# Altium integrated library Linear Technology PMIC-Switching Reg LTC1174-LTC3901.IntLib: 2647 symbols (part 80 of 310)
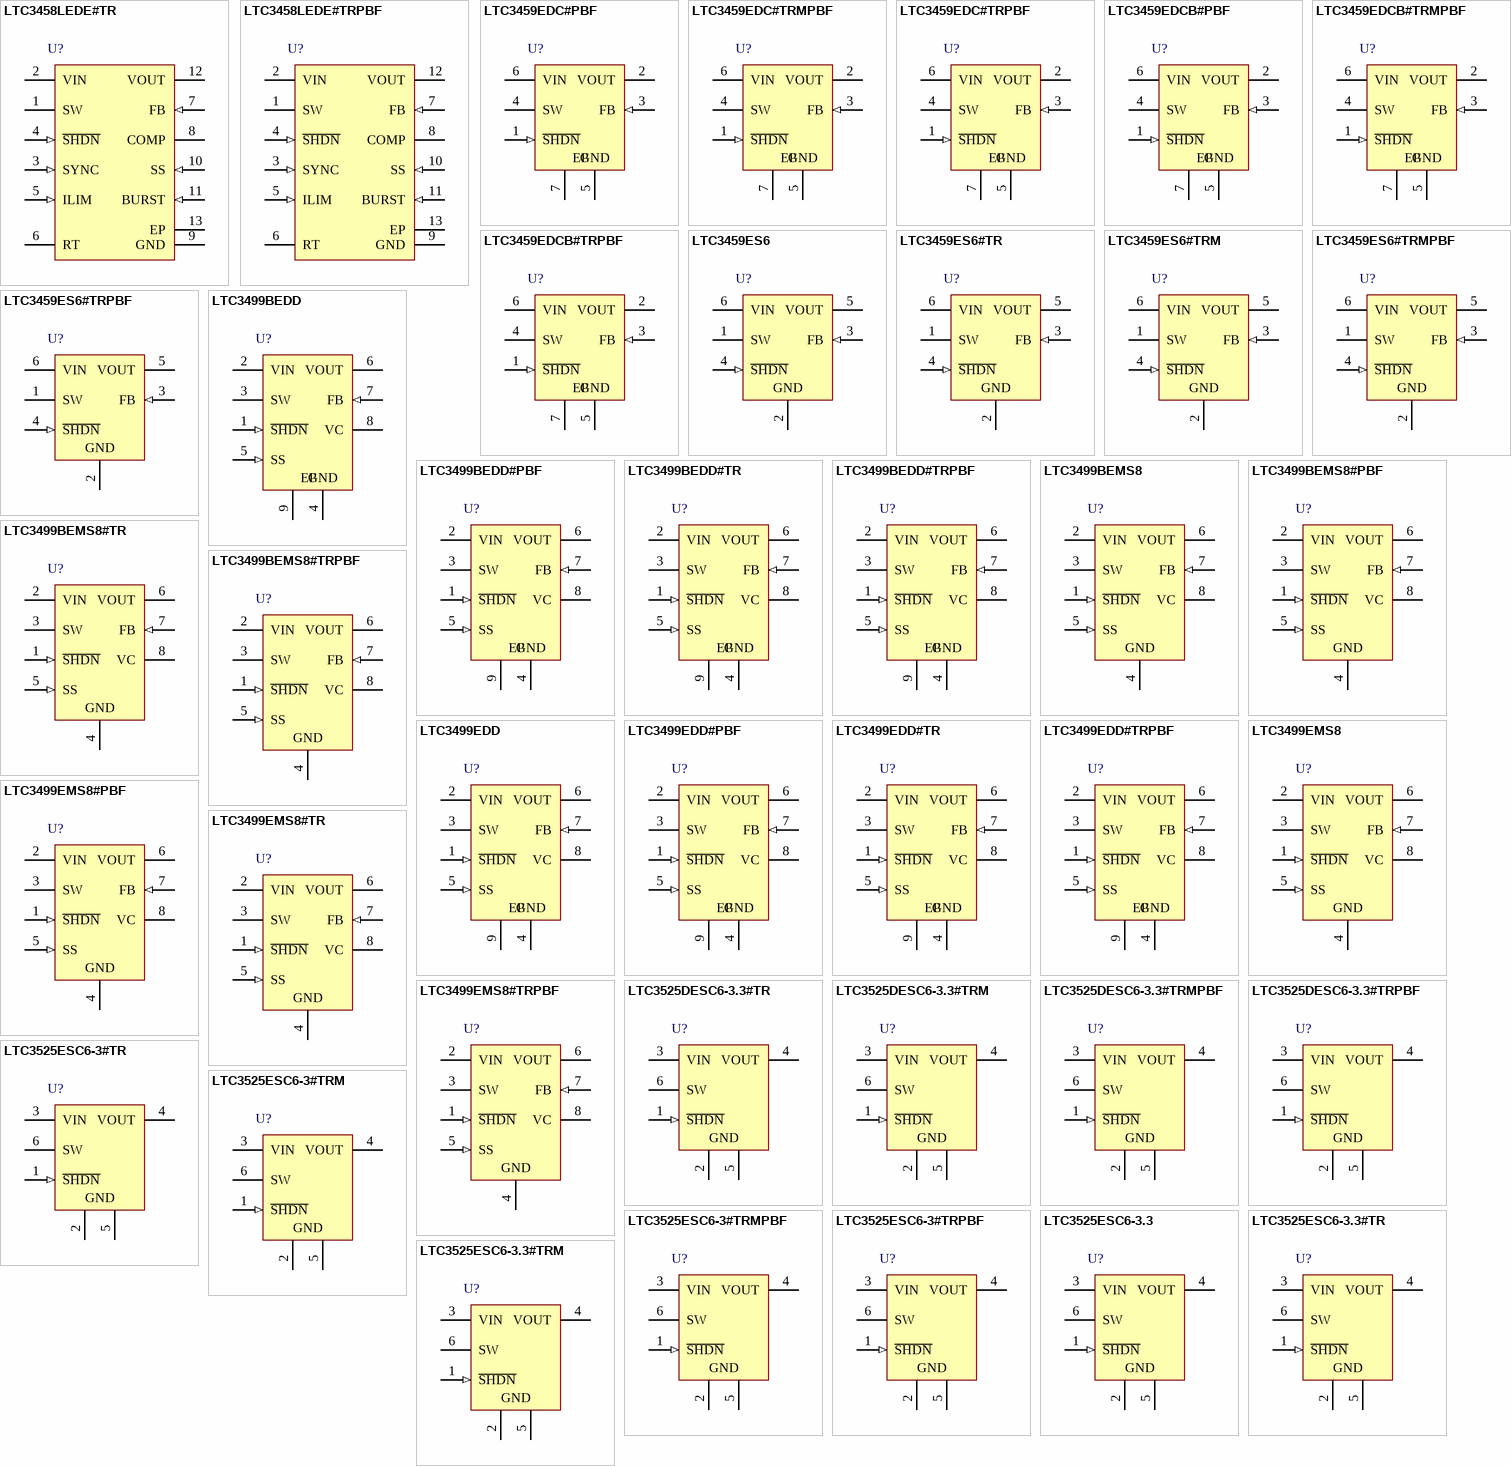
[diagram p161: symbols LTC3458LEDE#TR to LTC3525ESC6-3.3#TRM]

## LTC3499BEDD#TRPBF
designator U?
750 mA Synchronous Step-Up DC/DC Converter with Reverse-Battery Protection, 8-pin SON (DD-8), -40 to 85 degC, Pb-Free, Tape and Reel; Manufacturer: Linear Technology; PartNumber: LTC3499BEDD#TRPBF; Number of Outputs: 1; PackageReference: DD-8; PackageDescription: 8-Pin Plastic DFN, Body 3 x 3 mm, Pitch 0.5 mm; Supplier 1: Digi-Key; Supplier Part Number 1: LTC3499BEDD#TRPBF-ND; RoHS: TRUE; Code_JEDEC: MO-229
footprint LT-DD-8_V (SON, 8-Leads, Body 3x3mm, Pitch 0.5mm, Thermal Pad 1.65x2.38 mm)
pins: 1 ~{SHDN} (in) "Shutdown Input for IC. Connect to a voltage greater than 1.2V to enable and a voltage less than 0.2V to disable the LTC3499/LTC3499B.", 2 VIN (power) "Input Supply Voltage. The valid operating voltage is between 1.8V to 5.5V. VIN has reverse battery protection. Since the LTC3499/LTC3499B use VIN as the main bias source, bypass with a low ESR ceramic capacitor of at least 2.(See Datasheet)", 3 SW "Switch Pin. Connect an inductor from VIN to this pin with a value between 2.2uH and 10uH. Keep PCB trace lengths as short and wide as possible to minimize EMI and voltage overshoot. If the inductor current falls to zero or (See Datasheet)", 4 GND (power) "Signal and Power Ground. The DD package exposed pad must be soldered to the PCB power ground plane for electrical connection and rated thermal performance.", 5 SS (in) "Soft-Start Input. Connect a capacitor from SS to ground to control the inrush current at start-up. An internal 3uA current source charges this pin. SS will be discharged if S\H\D\N\ is pulled low, thermal shutdown occurs or (See Datasheet)", 6 VOUT (power) "Power Supply Output. Connect a low ESR output filter capacitor from this pin to the ground plane.", 7 FB (in) "FB Input to Error Amplifier. Connect a resistor divider tap from VOUT to this pin to set the output voltage. The output voltage can be adjusted between 2V and 6V.", 8 VC "Error Amplifier Output. A frequency compensation network is connected from this pin to GND to compensate the boost converter loop. See Closing the Feedthrough Loop section for guidelines.", 9 EP (power) "Signal and Power Ground. The DD package exposed pad must be soldered to the PCB power ground plane for electrical connection and rated thermal performance."

## LTC3499BEMS8
designator U?
750 mA Synchronous Step-Up DC/DC Converter with Reverse-Battery Protection, 8-pin SOP (MS8-8), -40 to 85 degC; Manufacturer: Linear Technology; PartNumber: LTC3499BEMS8; Number of Outputs: 1; PackageReference: MS8; PackageDescription: 8-Pin Plastic MSOP, Body 3 x 3 mm, Pitch 0.65 mm; RoHS: FALSE
footprint LT-MS8_N (SOP, 8-Leads, Body 3.1x3.1mm, Pitch 0.65mm, IPC Medium Density)
footprint LT-MS8_L (SOP, 8-Leads, Body 3.1x3.1mm, Pitch 0.65mm, IPC High Density)
footprint LT-MS8_M (SOP, 8-Leads, Body 3.1x3.1mm, Pitch 0.65mm, IPC Low Density)
pins: 1 ~{SHDN} (in) "Shutdown Input for IC. Connect to a voltage greater than 1.2V to enable and a voltage less than 0.2V to disable the LTC3499.", 2 VIN (power) "Input Supply Voltage. The valid operating voltage is between 1.8V to 5.5V. VIN has reverse battery protection. Since the LTC3499/LTC3499B use VIN as the main bias source, bypass with a low ESR ceramic capacitor of at least 2.(See Datasheet)", 3 SW "Switch Pin. Connect an inductor from VIN to this pin with a value between 2.2uH and 10uH. Keep PCB trace lengths as short and wide as possible to minimize EMI and voltage overshoot. If the inductor current falls to zero or (See Datasheet)", 4 GND (power) "Signal and Power Ground. The DD package exposed pad must be soldered to the PCB power ground plane for electrical connection and rated thermal performance.", 5 SS (in) "Soft-Start Input. Connect a capacitor from SS to ground to control the inrush current at start-up. An internal 3uA current source charges this pin. SS will be discharged if S\H\D\N\ is pulled low, thermal shutdown occurs or (See Datasheet)", 6 VOUT (power) "Power Supply Output. Connect a low ESR output filter capacitor from this pin to the ground plane.", 7 FB (in) "FB Input to Error Amplifier. Connect a resistor divider tap from VOUT to this pin to set the output voltage. The output voltage can be adjusted between 2V and 6V.", 8 VC "Error Amplifier Output. A frequency compensation network is connected from this pin to GND to compensate the boost converter loop. See Closing the Feedthrough Loop section for guidelines."

## LTC3499BEMS8#PBF
designator U?
750 mA Synchronous Step-Up DC/DC Converter with Reverse-Battery Protection, 8-pin SOP (MS8-8), -40 to 85 degC, Pb-Free; Manufacturer: Linear Technology; PartNumber: LTC3499BEMS8#PBF; Number of Outputs: 1; PackageReference: MS8; PackageDescription: 8-Pin Plastic MSOP, Body 3 x 3 mm, Pitch 0.65 mm; Supplier 1: Digi-Key; Supplier Part Number 1: LTC3499BEMS8#PBF-ND; RoHS: TRUE
footprint LT-MS8_N (SOP, 8-Leads, Body 3.1x3.1mm, Pitch 0.65mm, IPC Medium Density)
footprint LT-MS8_L (SOP, 8-Leads, Body 3.1x3.1mm, Pitch 0.65mm, IPC High Density)
footprint LT-MS8_M (SOP, 8-Leads, Body 3.1x3.1mm, Pitch 0.65mm, IPC Low Density)
pins: 1 ~{SHDN} (in) "Shutdown Input for IC. Connect to a voltage greater than 1.2V to enable and a voltage less than 0.2V to disable the LTC3499.", 2 VIN (power) "Input Supply Voltage. The valid operating voltage is between 1.8V to 5.5V. VIN has reverse battery protection. Since the LTC3499/LTC3499B use VIN as the main bias source, bypass with a low ESR ceramic capacitor of at least 2.(See Datasheet)", 3 SW "Switch Pin. Connect an inductor from VIN to this pin with a value between 2.2uH and 10uH. Keep PCB trace lengths as short and wide as possible to minimize EMI and voltage overshoot. If the inductor current falls to zero or (See Datasheet)", 4 GND (power) "Signal and Power Ground. The DD package exposed pad must be soldered to the PCB power ground plane for electrical connection and rated thermal performance.", 5 SS (in) "Soft-Start Input. Connect a capacitor from SS to ground to control the inrush current at start-up. An internal 3uA current source charges this pin. SS will be discharged if S\H\D\N\ is pulled low, thermal shutdown occurs or (See Datasheet)", 6 VOUT (power) "Power Supply Output. Connect a low ESR output filter capacitor from this pin to the ground plane.", 7 FB (in) "FB Input to Error Amplifier. Connect a resistor divider tap from VOUT to this pin to set the output voltage. The output voltage can be adjusted between 2V and 6V.", 8 VC "Error Amplifier Output. A frequency compensation network is connected from this pin to GND to compensate the boost converter loop. See Closing the Feedthrough Loop section for guidelines."

## LTC3499BEMS8#TR
designator U?
750 mA Synchronous Step-Up DC/DC Converter with Reverse-Battery Protection, 8-pin SOP (MS8-8), -40 to 85 degC, Tape and Reel; Manufacturer: Linear Technology; PartNumber: LTC3499BEMS8#TR; Number of Outputs: 1; PackageReference: MS8; PackageDescription: 8-Pin Plastic MSOP, Body 3 x 3 mm, Pitch 0.65 mm; RoHS: FALSE
footprint LT-MS8_N (SOP, 8-Leads, Body 3.1x3.1mm, Pitch 0.65mm, IPC Medium Density)
footprint LT-MS8_L (SOP, 8-Leads, Body 3.1x3.1mm, Pitch 0.65mm, IPC High Density)
footprint LT-MS8_M (SOP, 8-Leads, Body 3.1x3.1mm, Pitch 0.65mm, IPC Low Density)
pins: 1 ~{SHDN} (in) "Shutdown Input for IC. Connect to a voltage greater than 1.2V to enable and a voltage less than 0.2V to disable the LTC3499.", 2 VIN (power) "Input Supply Voltage. The valid operating voltage is between 1.8V to 5.5V. VIN has reverse battery protection. Since the LTC3499/LTC3499B use VIN as the main bias source, bypass with a low ESR ceramic capacitor of at least 2.(See Datasheet)", 3 SW "Switch Pin. Connect an inductor from VIN to this pin with a value between 2.2uH and 10uH. Keep PCB trace lengths as short and wide as possible to minimize EMI and voltage overshoot. If the inductor current falls to zero or (See Datasheet)", 4 GND (power) "Signal and Power Ground. The DD package exposed pad must be soldered to the PCB power ground plane for electrical connection and rated thermal performance.", 5 SS (in) "Soft-Start Input. Connect a capacitor from SS to ground to control the inrush current at start-up. An internal 3uA current source charges this pin. SS will be discharged if S\H\D\N\ is pulled low, thermal shutdown occurs or (See Datasheet)", 6 VOUT (power) "Power Supply Output. Connect a low ESR output filter capacitor from this pin to the ground plane.", 7 FB (in) "FB Input to Error Amplifier. Connect a resistor divider tap from VOUT to this pin to set the output voltage. The output voltage can be adjusted between 2V and 6V.", 8 VC "Error Amplifier Output. A frequency compensation network is connected from this pin to GND to compensate the boost converter loop. See Closing the Feedthrough Loop section for guidelines."

## LTC3499BEMS8#TRPBF
designator U?
750 mA Synchronous Step-Up DC/DC Converter with Reverse-Battery Protection, 8-pin SOP (MS8-8), -40 to 85 degC, Pb-Free, Tape and Reel; Manufacturer: Linear Technology; PartNumber: LTC3499BEMS8#TRPBF; Number of Outputs: 1; PackageReference: MS8; PackageDescription: 8-Pin Plastic MSOP, Body 3 x 3 mm, Pitch 0.65 mm; Supplier 1: Digi-Key; Supplier Part Number 1: LTC3499BEMS8#TRPBF-ND; RoHS: TRUE
footprint LT-MS8_N (SOP, 8-Leads, Body 3.1x3.1mm, Pitch 0.65mm, IPC Medium Density)
footprint LT-MS8_L (SOP, 8-Leads, Body 3.1x3.1mm, Pitch 0.65mm, IPC High Density)
footprint LT-MS8_M (SOP, 8-Leads, Body 3.1x3.1mm, Pitch 0.65mm, IPC Low Density)
pins: 1 ~{SHDN} (in) "Shutdown Input for IC. Connect to a voltage greater than 1.2V to enable and a voltage less than 0.2V to disable the LTC3499.", 2 VIN (power) "Input Supply Voltage. The valid operating voltage is between 1.8V to 5.5V. VIN has reverse battery protection. Since the LTC3499/LTC3499B use VIN as the main bias source, bypass with a low ESR ceramic capacitor of at least 2.(See Datasheet)", 3 SW "Switch Pin. Connect an inductor from VIN to this pin with a value between 2.2uH and 10uH. Keep PCB trace lengths as short and wide as possible to minimize EMI and voltage overshoot. If the inductor current falls to zero or (See Datasheet)", 4 GND (power) "Signal and Power Ground. The DD package exposed pad must be soldered to the PCB power ground plane for electrical connection and rated thermal performance.", 5 SS (in) "Soft-Start Input. Connect a capacitor from SS to ground to control the inrush current at start-up. An internal 3uA current source charges this pin. SS will be discharged if S\H\D\N\ is pulled low, thermal shutdown occurs or (See Datasheet)", 6 VOUT (power) "Power Supply Output. Connect a low ESR output filter capacitor from this pin to the ground plane.", 7 FB (in) "FB Input to Error Amplifier. Connect a resistor divider tap from VOUT to this pin to set the output voltage. The output voltage can be adjusted between 2V and 6V.", 8 VC "Error Amplifier Output. A frequency compensation network is connected from this pin to GND to compensate the boost converter loop. See Closing the Feedthrough Loop section for guidelines."

## LTC3499EDD
designator U?
750 mA Synchronous Step-Up DC/DC Converter with Reverse-Battery Protection, 8-pin SON (DD-8), -40 to 85 degC; Manufacturer: Linear Technology; PartNumber: LTC3499EDD; Number of Outputs: 1; PackageReference: DD-8; PackageDescription: 8-Pin Plastic DFN, Body 3 x 3 mm, Pitch 0.5 mm; RoHS: FALSE; Code_JEDEC: MO-229
footprint LT-DD-8_V (SON, 8-Leads, Body 3x3mm, Pitch 0.5mm, Thermal Pad 1.65x2.38 mm)
pins: 1 ~{SHDN} (in) "Shutdown Input for IC. Connect to a voltage greater than 1.2V to enable and a voltage less than 0.2V to disable the LTC3499/LTC3499B.", 2 VIN (power) "Input Supply Voltage. The valid operating voltage is between 1.8V to 5.5V. VIN has reverse battery protection. Since the LTC3499/LTC3499B use VIN as the main bias source, bypass with a low ESR ceramic capacitor of at least 2.(See Datasheet)", 3 SW "Switch Pin. Connect an inductor from VIN to this pin with a value between 2.2uH and 10uH. Keep PCB trace lengths as short and wide as possible to minimize EMI and voltage overshoot. If the inductor current falls to zero or (See Datasheet)", 4 GND (power) "Signal and Power Ground. The DD package exposed pad must be soldered to the PCB power ground plane for electrical connection and rated thermal performance.", 5 SS (in) "Soft-Start Input. Connect a capacitor from SS to ground to control the inrush current at start-up. An internal 3uA current source charges this pin. SS will be discharged if S\H\D\N\ is pulled low, thermal shutdown occurs or (See Datasheet)", 6 VOUT (power) "Power Supply Output. Connect a low ESR output filter capacitor from this pin to the ground plane.", 7 FB (in) "FB Input to Error Amplifier. Connect a resistor divider tap from VOUT to this pin to set the output voltage. The output voltage can be adjusted between 2V and 6V.", 8 VC "Error Amplifier Output. A frequency compensation network is connected from this pin to GND to compensate the boost converter loop. See Closing the Feedthrough Loop section for guidelines.", 9 EP (power) "Signal and Power Ground. The DD package exposed pad must be soldered to the PCB power ground plane for electrical connection and rated thermal performance."

## LTC3499EDD#PBF
designator U?
750 mA Synchronous Step-Up DC/DC Converter with Reverse-Battery Protection, 8-pin SON (DD-8), -40 to 85 degC, Pb-Free; Manufacturer: Linear Technology; PartNumber: LTC3499EDD#PBF; Number of Outputs: 1; PackageReference: DD-8; PackageDescription: 8-Pin Plastic DFN, Body 3 x 3 mm, Pitch 0.5 mm; Supplier 1: Digi-Key; Supplier Part Number 1: LTC3499EDD#PBF-ND; RoHS: TRUE; Code_JEDEC: MO-229
footprint LT-DD-8_V (SON, 8-Leads, Body 3x3mm, Pitch 0.5mm, Thermal Pad 1.65x2.38 mm)
pins: 1 ~{SHDN} (in) "Shutdown Input for IC. Connect to a voltage greater than 1.2V to enable and a voltage less than 0.2V to disable the LTC3499/LTC3499B.", 2 VIN (power) "Input Supply Voltage. The valid operating voltage is between 1.8V to 5.5V. VIN has reverse battery protection. Since the LTC3499/LTC3499B use VIN as the main bias source, bypass with a low ESR ceramic capacitor of at least 2.(See Datasheet)", 3 SW "Switch Pin. Connect an inductor from VIN to this pin with a value between 2.2uH and 10uH. Keep PCB trace lengths as short and wide as possible to minimize EMI and voltage overshoot. If the inductor current falls to zero or (See Datasheet)", 4 GND (power) "Signal and Power Ground. The DD package exposed pad must be soldered to the PCB power ground plane for electrical connection and rated thermal performance.", 5 SS (in) "Soft-Start Input. Connect a capacitor from SS to ground to control the inrush current at start-up. An internal 3uA current source charges this pin. SS will be discharged if S\H\D\N\ is pulled low, thermal shutdown occurs or (See Datasheet)", 6 VOUT (power) "Power Supply Output. Connect a low ESR output filter capacitor from this pin to the ground plane.", 7 FB (in) "FB Input to Error Amplifier. Connect a resistor divider tap from VOUT to this pin to set the output voltage. The output voltage can be adjusted between 2V and 6V.", 8 VC "Error Amplifier Output. A frequency compensation network is connected from this pin to GND to compensate the boost converter loop. See Closing the Feedthrough Loop section for guidelines.", 9 EP (power) "Signal and Power Ground. The DD package exposed pad must be soldered to the PCB power ground plane for electrical connection and rated thermal performance."

## LTC3499EDD#TR
designator U?
750 mA Synchronous Step-Up DC/DC Converter with Reverse-Battery Protection, 8-pin SON (DD-8), -40 to 85 degC, Tape and Reel; Manufacturer: Linear Technology; PartNumber: LTC3499EDD#TR; Number of Outputs: 1; PackageReference: DD-8; PackageDescription: 8-Pin Plastic DFN, Body 3 x 3 mm, Pitch 0.5 mm; RoHS: FALSE; Code_JEDEC: MO-229
footprint LT-DD-8_V (SON, 8-Leads, Body 3x3mm, Pitch 0.5mm, Thermal Pad 1.65x2.38 mm)
pins: 1 ~{SHDN} (in) "Shutdown Input for IC. Connect to a voltage greater than 1.2V to enable and a voltage less than 0.2V to disable the LTC3499/LTC3499B.", 2 VIN (power) "Input Supply Voltage. The valid operating voltage is between 1.8V to 5.5V. VIN has reverse battery protection. Since the LTC3499/LTC3499B use VIN as the main bias source, bypass with a low ESR ceramic capacitor of at least 2.(See Datasheet)", 3 SW "Switch Pin. Connect an inductor from VIN to this pin with a value between 2.2uH and 10uH. Keep PCB trace lengths as short and wide as possible to minimize EMI and voltage overshoot. If the inductor current falls to zero or (See Datasheet)", 4 GND (power) "Signal and Power Ground. The DD package exposed pad must be soldered to the PCB power ground plane for electrical connection and rated thermal performance.", 5 SS (in) "Soft-Start Input. Connect a capacitor from SS to ground to control the inrush current at start-up. An internal 3uA current source charges this pin. SS will be discharged if S\H\D\N\ is pulled low, thermal shutdown occurs or (See Datasheet)", 6 VOUT (power) "Power Supply Output. Connect a low ESR output filter capacitor from this pin to the ground plane.", 7 FB (in) "FB Input to Error Amplifier. Connect a resistor divider tap from VOUT to this pin to set the output voltage. The output voltage can be adjusted between 2V and 6V.", 8 VC "Error Amplifier Output. A frequency compensation network is connected from this pin to GND to compensate the boost converter loop. See Closing the Feedthrough Loop section for guidelines.", 9 EP (power) "Signal and Power Ground. The DD package exposed pad must be soldered to the PCB power ground plane for electrical connection and rated thermal performance."

## LTC3499EDD#TRPBF
designator U?
750 mA Synchronous Step-Up DC/DC Converter with Reverse-Battery Protection, 8-pin SON (DD-8), -40 to 85 degC, Pb-Free, Tape and Reel; Manufacturer: Linear Technology; PartNumber: LTC3499EDD#TRPBF; Number of Outputs: 1; PackageReference: DD-8; PackageDescription: 8-Pin Plastic DFN, Body 3 x 3 mm, Pitch 0.5 mm; Supplier 1: Digi-Key; Supplier Part Number 1: LTC3499EDD#TRPBF-ND; RoHS: TRUE; Code_JEDEC: MO-229
footprint LT-DD-8_V (SON, 8-Leads, Body 3x3mm, Pitch 0.5mm, Thermal Pad 1.65x2.38 mm)
pins: 1 ~{SHDN} (in) "Shutdown Input for IC. Connect to a voltage greater than 1.2V to enable and a voltage less than 0.2V to disable the LTC3499/LTC3499B.", 2 VIN (power) "Input Supply Voltage. The valid operating voltage is between 1.8V to 5.5V. VIN has reverse battery protection. Since the LTC3499/LTC3499B use VIN as the main bias source, bypass with a low ESR ceramic capacitor of at least 2.(See Datasheet)", 3 SW "Switch Pin. Connect an inductor from VIN to this pin with a value between 2.2uH and 10uH. Keep PCB trace lengths as short and wide as possible to minimize EMI and voltage overshoot. If the inductor current falls to zero or (See Datasheet)", 4 GND (power) "Signal and Power Ground. The DD package exposed pad must be soldered to the PCB power ground plane for electrical connection and rated thermal performance.", 5 SS (in) "Soft-Start Input. Connect a capacitor from SS to ground to control the inrush current at start-up. An internal 3uA current source charges this pin. SS will be discharged if S\H\D\N\ is pulled low, thermal shutdown occurs or (See Datasheet)", 6 VOUT (power) "Power Supply Output. Connect a low ESR output filter capacitor from this pin to the ground plane.", 7 FB (in) "FB Input to Error Amplifier. Connect a resistor divider tap from VOUT to this pin to set the output voltage. The output voltage can be adjusted between 2V and 6V.", 8 VC "Error Amplifier Output. A frequency compensation network is connected from this pin to GND to compensate the boost converter loop. See Closing the Feedthrough Loop section for guidelines.", 9 EP (power) "Signal and Power Ground. The DD package exposed pad must be soldered to the PCB power ground plane for electrical connection and rated thermal performance."

## LTC3499EMS8
designator U?
750 mA Synchronous Step-Up DC/DC Converter with Reverse-Battery Protection, 8-pin SOP (MS8-8), -40 to 85 degC; Manufacturer: Linear Technology; PartNumber: LTC3499EMS8; Number of Outputs: 1; PackageReference: MS8; PackageDescription: 8-Pin Plastic MSOP, Body 3 x 3 mm, Pitch 0.65 mm; RoHS: FALSE
footprint LT-MS8_N (SOP, 8-Leads, Body 3.1x3.1mm, Pitch 0.65mm, IPC Medium Density)
footprint LT-MS8_L (SOP, 8-Leads, Body 3.1x3.1mm, Pitch 0.65mm, IPC High Density)
footprint LT-MS8_M (SOP, 8-Leads, Body 3.1x3.1mm, Pitch 0.65mm, IPC Low Density)
pins: 1 ~{SHDN} (in) "Shutdown Input for IC. Connect to a voltage greater than 1.2V to enable and a voltage less than 0.2V to disable the LTC3499.", 2 VIN (power) "Input Supply Voltage. The valid operating voltage is between 1.8V to 5.5V. VIN has reverse battery protection. Since the LTC3499/LTC3499B use VIN as the main bias source, bypass with a low ESR ceramic capacitor of at least 2.(See Datasheet)", 3 SW "Switch Pin. Connect an inductor from VIN to this pin with a value between 2.2uH and 10uH. Keep PCB trace lengths as short and wide as possible to minimize EMI and voltage overshoot. If the inductor current falls to zero or (See Datasheet)", 4 GND (power) "Signal and Power Ground. The DD package exposed pad must be soldered to the PCB power ground plane for electrical connection and rated thermal performance.", 5 SS (in) "Soft-Start Input. Connect a capacitor from SS to ground to control the inrush current at start-up. An internal 3uA current source charges this pin. SS will be discharged if S\H\D\N\ is pulled low, thermal shutdown occurs or (See Datasheet)", 6 VOUT (power) "Power Supply Output. Connect a low ESR output filter capacitor from this pin to the ground plane.", 7 FB (in) "FB Input to Error Amplifier. Connect a resistor divider tap from VOUT to this pin to set the output voltage. The output voltage can be adjusted between 2V and 6V.", 8 VC "Error Amplifier Output. A frequency compensation network is connected from this pin to GND to compensate the boost converter loop. See Closing the Feedthrough Loop section for guidelines."

## LTC3499EMS8#PBF
designator U?
750 mA Synchronous Step-Up DC/DC Converter with Reverse-Battery Protection, 8-pin SOP (MS8-8), -40 to 85 degC, Pb-Free; Manufacturer: Linear Technology; PartNumber: LTC3499EMS8#PBF; Number of Outputs: 1; PackageReference: MS8; PackageDescription: 8-Pin Plastic MSOP, Body 3 x 3 mm, Pitch 0.65 mm; Supplier 1: Digi-Key; Supplier Part Number 1: LTC3499EMS8#PBF-ND; RoHS: TRUE
footprint LT-MS8_N (SOP, 8-Leads, Body 3.1x3.1mm, Pitch 0.65mm, IPC Medium Density)
footprint LT-MS8_L (SOP, 8-Leads, Body 3.1x3.1mm, Pitch 0.65mm, IPC High Density)
footprint LT-MS8_M (SOP, 8-Leads, Body 3.1x3.1mm, Pitch 0.65mm, IPC Low Density)
pins: 1 ~{SHDN} (in) "Shutdown Input for IC. Connect to a voltage greater than 1.2V to enable and a voltage less than 0.2V to disable the LTC3499.", 2 VIN (power) "Input Supply Voltage. The valid operating voltage is between 1.8V to 5.5V. VIN has reverse battery protection. Since the LTC3499/LTC3499B use VIN as the main bias source, bypass with a low ESR ceramic capacitor of at least 2.(See Datasheet)", 3 SW "Switch Pin. Connect an inductor from VIN to this pin with a value between 2.2uH and 10uH. Keep PCB trace lengths as short and wide as possible to minimize EMI and voltage overshoot. If the inductor current falls to zero or (See Datasheet)", 4 GND (power) "Signal and Power Ground. The DD package exposed pad must be soldered to the PCB power ground plane for electrical connection and rated thermal performance.", 5 SS (in) "Soft-Start Input. Connect a capacitor from SS to ground to control the inrush current at start-up. An internal 3uA current source charges this pin. SS will be discharged if S\H\D\N\ is pulled low, thermal shutdown occurs or (See Datasheet)", 6 VOUT (power) "Power Supply Output. Connect a low ESR output filter capacitor from this pin to the ground plane.", 7 FB (in) "FB Input to Error Amplifier. Connect a resistor divider tap from VOUT to this pin to set the output voltage. The output voltage can be adjusted between 2V and 6V.", 8 VC "Error Amplifier Output. A frequency compensation network is connected from this pin to GND to compensate the boost converter loop. See Closing the Feedthrough Loop section for guidelines."

## LTC3499EMS8#TR
designator U?
750 mA Synchronous Step-Up DC/DC Converter with Reverse-Battery Protection, 8-pin SOP (MS8-8), -40 to 85 degC, Tape and Reel; Manufacturer: Linear Technology; PartNumber: LTC3499EMS8#TR; Number of Outputs: 1; PackageReference: MS8; PackageDescription: 8-Pin Plastic MSOP, Body 3 x 3 mm, Pitch 0.65 mm; RoHS: FALSE
footprint LT-MS8_N (SOP, 8-Leads, Body 3.1x3.1mm, Pitch 0.65mm, IPC Medium Density)
footprint LT-MS8_L (SOP, 8-Leads, Body 3.1x3.1mm, Pitch 0.65mm, IPC High Density)
footprint LT-MS8_M (SOP, 8-Leads, Body 3.1x3.1mm, Pitch 0.65mm, IPC Low Density)
pins: 1 ~{SHDN} (in) "Shutdown Input for IC. Connect to a voltage greater than 1.2V to enable and a voltage less than 0.2V to disable the LTC3499.", 2 VIN (power) "Input Supply Voltage. The valid operating voltage is between 1.8V to 5.5V. VIN has reverse battery protection. Since the LTC3499/LTC3499B use VIN as the main bias source, bypass with a low ESR ceramic capacitor of at least 2.(See Datasheet)", 3 SW "Switch Pin. Connect an inductor from VIN to this pin with a value between 2.2uH and 10uH. Keep PCB trace lengths as short and wide as possible to minimize EMI and voltage overshoot. If the inductor current falls to zero or (See Datasheet)", 4 GND (power) "Signal and Power Ground. The DD package exposed pad must be soldered to the PCB power ground plane for electrical connection and rated thermal performance.", 5 SS (in) "Soft-Start Input. Connect a capacitor from SS to ground to control the inrush current at start-up. An internal 3uA current source charges this pin. SS will be discharged if S\H\D\N\ is pulled low, thermal shutdown occurs or (See Datasheet)", 6 VOUT (power) "Power Supply Output. Connect a low ESR output filter capacitor from this pin to the ground plane.", 7 FB (in) "FB Input to Error Amplifier. Connect a resistor divider tap from VOUT to this pin to set the output voltage. The output voltage can be adjusted between 2V and 6V.", 8 VC "Error Amplifier Output. A frequency compensation network is connected from this pin to GND to compensate the boost converter loop. See Closing the Feedthrough Loop section for guidelines."

## LTC3499EMS8#TRPBF
designator U?
750 mA Synchronous Step-Up DC/DC Converter with Reverse-Battery Protection, 8-pin SOP (MS8-8), -40 to 85 degC, Pb-Free, Tape and Reel; Manufacturer: Linear Technology; PartNumber: LTC3499EMS8#TRPBF; Number of Outputs: 1; PackageReference: MS8; PackageDescription: 8-Pin Plastic MSOP, Body 3 x 3 mm, Pitch 0.65 mm; Supplier 1: Digi-Key; Supplier Part Number 1: LTC3499EMS8#TRPBF-ND; RoHS: TRUE
footprint LT-MS8_N (SOP, 8-Leads, Body 3.1x3.1mm, Pitch 0.65mm, IPC Medium Density)
footprint LT-MS8_L (SOP, 8-Leads, Body 3.1x3.1mm, Pitch 0.65mm, IPC High Density)
footprint LT-MS8_M (SOP, 8-Leads, Body 3.1x3.1mm, Pitch 0.65mm, IPC Low Density)
pins: 1 ~{SHDN} (in) "Shutdown Input for IC. Connect to a voltage greater than 1.2V to enable and a voltage less than 0.2V to disable the LTC3499.", 2 VIN (power) "Input Supply Voltage. The valid operating voltage is between 1.8V to 5.5V. VIN has reverse battery protection. Since the LTC3499/LTC3499B use VIN as the main bias source, bypass with a low ESR ceramic capacitor of at least 2.(See Datasheet)", 3 SW "Switch Pin. Connect an inductor from VIN to this pin with a value between 2.2uH and 10uH. Keep PCB trace lengths as short and wide as possible to minimize EMI and voltage overshoot. If the inductor current falls to zero or (See Datasheet)", 4 GND (power) "Signal and Power Ground. The DD package exposed pad must be soldered to the PCB power ground plane for electrical connection and rated thermal performance.", 5 SS (in) "Soft-Start Input. Connect a capacitor from SS to ground to control the inrush current at start-up. An internal 3uA current source charges this pin. SS will be discharged if S\H\D\N\ is pulled low, thermal shutdown occurs or (See Datasheet)", 6 VOUT (power) "Power Supply Output. Connect a low ESR output filter capacitor from this pin to the ground plane.", 7 FB (in) "FB Input to Error Amplifier. Connect a resistor divider tap from VOUT to this pin to set the output voltage. The output voltage can be adjusted between 2V and 6V.", 8 VC "Error Amplifier Output. A frequency compensation network is connected from this pin to GND to compensate the boost converter loop. See Closing the Feedthrough Loop section for guidelines."

## LTC3525DESC6-3.3#TR
designator U?
400 mA Micropower Synchronous Step-Up DC/DC Converter with Pass Through Mode, 6-pin SOT23 (SC6-6), -40 to 85 degC, Tape and Reel; Manufacturer: Linear Technology; PartNumber: LTC3525DESC6-3.3#TR; Number of Outputs: 1; PackageReference: SC6-6; PackageDescription: 6-Pin Plastic SC70, Body 2 x 1.25 mm, Pitch 0.65 mm; RoHS: FALSE; Code_JEDEC: MO-203
footprint LT-SC6-6-SC70_N (SOT23, 6-Leads, Body 2.2x1.35mm, Pitch 0.65mm, IPC Medium Density)
footprint LT-SC6-6-SC70_L (SOT23, 6-Leads, Body 2.2x1.35mm, Pitch 0.65mm, IPC High Density)
footprint LT-SC6-6-SC70_M (SOT23, 6-Leads, Body 2.2x1.35mm, Pitch 0.65mm, IPC Low Density)
pins: 1 ~{SHDN} (in) "Logic-Controlled Shutdown Input.", 2 GND (power) "Ground.", 3 VIN (power) "Input Voltage.", 4 VOUT (power) "Output Voltage Sense and the Output of the Synchronous Rectifier. Connect the output filter capacitor from VOUT to GND, close to the IC. A minimum value of 10uF ceramic is recommended. Use 22uF for reduced output ripple.", 5 GND (power) "Ground.", 6 SW "Switch Pin. Connect an inductor from this pin to VIN. An internal antiringing resistor is connected across SW and VIN after the inductor current has dropped to zero to minimize EMI."

## LTC3525DESC6-3.3#TRM
designator U?
400 mA Micropower Synchronous Step-Up DC/DC Converter with Pass Through Mode, 6-pin SOT23 (SC6-6), -40 to 85 degC, Mini Tape and Reel; Manufacturer: Linear Technology; PartNumber: LTC3525DESC6-3.3#TRM; Number of Outputs: 1; PackageReference: SC6-6; PackageDescription: 6-Pin Plastic SC70, Body 2 x 1.25 mm, Pitch 0.65 mm; RoHS: FALSE; Code_JEDEC: MO-203
footprint LT-SC6-6-SC70_N (SOT23, 6-Leads, Body 2.2x1.35mm, Pitch 0.65mm, IPC Medium Density)
footprint LT-SC6-6-SC70_L (SOT23, 6-Leads, Body 2.2x1.35mm, Pitch 0.65mm, IPC High Density)
footprint LT-SC6-6-SC70_M (SOT23, 6-Leads, Body 2.2x1.35mm, Pitch 0.65mm, IPC Low Density)
pins: 1 ~{SHDN} (in) "Logic-Controlled Shutdown Input.", 2 GND (power) "Ground.", 3 VIN (power) "Input Voltage.", 4 VOUT (power) "Output Voltage Sense and the Output of the Synchronous Rectifier. Connect the output filter capacitor from VOUT to GND, close to the IC. A minimum value of 10uF ceramic is recommended. Use 22uF for reduced output ripple.", 5 GND (power) "Ground.", 6 SW "Switch Pin. Connect an inductor from this pin to VIN. An internal antiringing resistor is connected across SW and VIN after the inductor current has dropped to zero to minimize EMI."

## LTC3525DESC6-3.3#TRMPBF
designator U?
400 mA Micropower Synchronous Step-Up DC/DC Converter with Pass Through Mode, 6-pin SOT23 (SC6-6), -40 to 85 degC, Pb-Free, Mini Tape and Reel; Manufacturer: Linear Technology; PartNumber: LTC3525DESC6-3.3#TRMPBF; Number of Outputs: 1; PackageReference: SC6-6; PackageDescription: 6-Pin Plastic SC70, Body 2 x 1.25 mm, Pitch 0.65 mm; Supplier 1: Digi-Key; Supplier Part Number 1: LTC3525DESC6-3.3#TRMPBF-ND; RoHS: TRUE; Code_JEDEC: MO-203
footprint LT-SC6-6-SC70_N (SOT23, 6-Leads, Body 2.2x1.35mm, Pitch 0.65mm, IPC Medium Density)
footprint LT-SC6-6-SC70_L (SOT23, 6-Leads, Body 2.2x1.35mm, Pitch 0.65mm, IPC High Density)
footprint LT-SC6-6-SC70_M (SOT23, 6-Leads, Body 2.2x1.35mm, Pitch 0.65mm, IPC Low Density)
pins: 1 ~{SHDN} (in) "Logic-Controlled Shutdown Input.", 2 GND (power) "Ground.", 3 VIN (power) "Input Voltage.", 4 VOUT (power) "Output Voltage Sense and the Output of the Synchronous Rectifier. Connect the output filter capacitor from VOUT to GND, close to the IC. A minimum value of 10uF ceramic is recommended. Use 22uF for reduced output ripple.", 5 GND (power) "Ground.", 6 SW "Switch Pin. Connect an inductor from this pin to VIN. An internal antiringing resistor is connected across SW and VIN after the inductor current has dropped to zero to minimize EMI."

## LTC3525DESC6-3.3#TRPBF
designator U?
400 mA Micropower Synchronous Step-Up DC/DC Converter with Pass Through Mode, 6-pin SOT23 (SC6-6), -40 to 85 degC, Pb-Free, Tape and Reel; Manufacturer: Linear Technology; PartNumber: LTC3525DESC6-3.3#TRPBF; Number of Outputs: 1; PackageReference: SC6-6; PackageDescription: 6-Pin Plastic SC70, Body 2 x 1.25 mm, Pitch 0.65 mm; Supplier 1: Digi-Key; Supplier Part Number 1: LTC3525DESC6-3.3#TRPBF-ND; RoHS: TRUE; Code_JEDEC: MO-203
footprint LT-SC6-6-SC70_N (SOT23, 6-Leads, Body 2.2x1.35mm, Pitch 0.65mm, IPC Medium Density)
footprint LT-SC6-6-SC70_L (SOT23, 6-Leads, Body 2.2x1.35mm, Pitch 0.65mm, IPC High Density)
footprint LT-SC6-6-SC70_M (SOT23, 6-Leads, Body 2.2x1.35mm, Pitch 0.65mm, IPC Low Density)
pins: 1 ~{SHDN} (in) "Logic-Controlled Shutdown Input.", 2 GND (power) "Ground.", 3 VIN (power) "Input Voltage.", 4 VOUT (power) "Output Voltage Sense and the Output of the Synchronous Rectifier. Connect the output filter capacitor from VOUT to GND, close to the IC. A minimum value of 10uF ceramic is recommended. Use 22uF for reduced output ripple.", 5 GND (power) "Ground.", 6 SW "Switch Pin. Connect an inductor from this pin to VIN. An internal antiringing resistor is connected across SW and VIN after the inductor current has dropped to zero to minimize EMI."

## LTC3525ESC6-3#TR
designator U?
400 mA Micropower Synchronous Step-Up DC/DC Converter with Output Disconnect, 6-pin SOT23 (SC6-6), -40 to 85 degC, Tape and Reel; Manufacturer: Linear Technology; PartNumber: LTC3525ESC6-3#TR; Number of Outputs: 1; PackageReference: SC6-6; PackageDescription: 6-Pin Plastic SC70, Body 2 x 1.25 mm, Pitch 0.65 mm; RoHS: FALSE; Code_JEDEC: MO-203
footprint LT-SC6-6-SC70_N (SOT23, 6-Leads, Body 2.2x1.35mm, Pitch 0.65mm, IPC Medium Density)
footprint LT-SC6-6-SC70_L (SOT23, 6-Leads, Body 2.2x1.35mm, Pitch 0.65mm, IPC High Density)
footprint LT-SC6-6-SC70_M (SOT23, 6-Leads, Body 2.2x1.35mm, Pitch 0.65mm, IPC Low Density)
pins: 1 ~{SHDN} (in) "Logic-Controlled Shutdown Input.", 2 GND (power) "Ground.", 3 VIN (power) "Input Voltage.", 4 VOUT (power) "Output Voltage Sense and the Output of the Synchronous Rectifier. Connect the output filter capacitor from VOUT to GND, close to the IC. A minimum value of 10uF ceramic is recommended. Use 22uF for reduced output ripple.", 5 GND (power) "Ground.", 6 SW "Switch Pin. Connect an inductor from this pin to VIN. An internal antiringing resistor is connected across SW and VIN after the inductor current has dropped to zero to minimize EMI."

## LTC3525ESC6-3#TRM
designator U?
400 mA Micropower Synchronous Step-Up DC/DC Converter with Output Disconnect, 6-pin SOT23 (SC6-6), -40 to 85 degC, Mini Tape and Reel; Manufacturer: Linear Technology; PartNumber: LTC3525ESC6-3#TRM; Number of Outputs: 1; PackageReference: SC6-6; PackageDescription: 6-Pin Plastic SC70, Body 2 x 1.25 mm, Pitch 0.65 mm; RoHS: FALSE; Code_JEDEC: MO-203
footprint LT-SC6-6-SC70_N (SOT23, 6-Leads, Body 2.2x1.35mm, Pitch 0.65mm, IPC Medium Density)
footprint LT-SC6-6-SC70_L (SOT23, 6-Leads, Body 2.2x1.35mm, Pitch 0.65mm, IPC High Density)
footprint LT-SC6-6-SC70_M (SOT23, 6-Leads, Body 2.2x1.35mm, Pitch 0.65mm, IPC Low Density)
pins: 1 ~{SHDN} (in) "Logic-Controlled Shutdown Input.", 2 GND (power) "Ground.", 3 VIN (power) "Input Voltage.", 4 VOUT (power) "Output Voltage Sense and the Output of the Synchronous Rectifier. Connect the output filter capacitor from VOUT to GND, close to the IC. A minimum value of 10uF ceramic is recommended. Use 22uF for reduced output ripple.", 5 GND (power) "Ground.", 6 SW "Switch Pin. Connect an inductor from this pin to VIN. An internal antiringing resistor is connected across SW and VIN after the inductor current has dropped to zero to minimize EMI."

## LTC3525ESC6-3#TRMPBF
designator U?
400 mA Micropower Synchronous Step-Up DC/DC Converter with Output Disconnect, 6-pin SOT23 (SC6-6), -40 to 85 degC, Pb-Free, Mini Tape and Reel; Manufacturer: Linear Technology; PartNumber: LTC3525ESC6-3#TRMPBF; Number of Outputs: 1; PackageReference: SC6-6; PackageDescription: 6-Pin Plastic SC70, Body 2 x 1.25 mm, Pitch 0.65 mm; Supplier 1: Digi-Key; Supplier Part Number 1: LTC3525ESC6-3#TRMPBFTR-ND; RoHS: TRUE; Code_JEDEC: MO-203
footprint LT-SC6-6-SC70_N (SOT23, 6-Leads, Body 2.2x1.35mm, Pitch 0.65mm, IPC Medium Density)
footprint LT-SC6-6-SC70_L (SOT23, 6-Leads, Body 2.2x1.35mm, Pitch 0.65mm, IPC High Density)
footprint LT-SC6-6-SC70_M (SOT23, 6-Leads, Body 2.2x1.35mm, Pitch 0.65mm, IPC Low Density)
pins: 1 ~{SHDN} (in) "Logic-Controlled Shutdown Input.", 2 GND (power) "Ground.", 3 VIN (power) "Input Voltage.", 4 VOUT (power) "Output Voltage Sense and the Output of the Synchronous Rectifier. Connect the output filter capacitor from VOUT to GND, close to the IC. A minimum value of 10uF ceramic is recommended. Use 22uF for reduced output ripple.", 5 GND (power) "Ground.", 6 SW "Switch Pin. Connect an inductor from this pin to VIN. An internal antiringing resistor is connected across SW and VIN after the inductor current has dropped to zero to minimize EMI."

## LTC3525ESC6-3#TRPBF
designator U?
400 mA Micropower Synchronous Step-Up DC/DC Converter with Output Disconnect, 6-pin SOT23 (SC6-6), -40 to 85 degC, Pb-Free, Tape and Reel; Manufacturer: Linear Technology; PartNumber: LTC3525ESC6-3#TRPBF; Number of Outputs: 1; PackageReference: SC6-6; PackageDescription: 6-Pin Plastic SC70, Body 2 x 1.25 mm, Pitch 0.65 mm; Supplier 1: Digi-Key; Supplier Part Number 1: LTC3525ESC6-3#TRPBF-ND; RoHS: TRUE; Code_JEDEC: MO-203
footprint LT-SC6-6-SC70_N (SOT23, 6-Leads, Body 2.2x1.35mm, Pitch 0.65mm, IPC Medium Density)
footprint LT-SC6-6-SC70_L (SOT23, 6-Leads, Body 2.2x1.35mm, Pitch 0.65mm, IPC High Density)
footprint LT-SC6-6-SC70_M (SOT23, 6-Leads, Body 2.2x1.35mm, Pitch 0.65mm, IPC Low Density)
pins: 1 ~{SHDN} (in) "Logic-Controlled Shutdown Input.", 2 GND (power) "Ground.", 3 VIN (power) "Input Voltage.", 4 VOUT (power) "Output Voltage Sense and the Output of the Synchronous Rectifier. Connect the output filter capacitor from VOUT to GND, close to the IC. A minimum value of 10uF ceramic is recommended. Use 22uF for reduced output ripple.", 5 GND (power) "Ground.", 6 SW "Switch Pin. Connect an inductor from this pin to VIN. An internal antiringing resistor is connected across SW and VIN after the inductor current has dropped to zero to minimize EMI."

## LTC3525ESC6-3.3
designator U?
400 mA Micropower Synchronous Step-Up DC/DC Converter with Output Disconnect, 6-pin SOT23 (SC6-6), -40 to 85 degC; Manufacturer: Linear Technology; PartNumber: LTC3525ESC6-3.3; Number of Outputs: 1; PackageReference: SC6-6; PackageDescription: 6-Pin Plastic SC70, Body 2 x 1.25 mm, Pitch 0.65 mm; RoHS: FALSE; Code_JEDEC: MO-203
footprint LT-SC6-6-SC70_N (SOT23, 6-Leads, Body 2.2x1.35mm, Pitch 0.65mm, IPC Medium Density)
footprint LT-SC6-6-SC70_L (SOT23, 6-Leads, Body 2.2x1.35mm, Pitch 0.65mm, IPC High Density)
footprint LT-SC6-6-SC70_M (SOT23, 6-Leads, Body 2.2x1.35mm, Pitch 0.65mm, IPC Low Density)
pins: 1 ~{SHDN} (in) "Logic-Controlled Shutdown Input.", 2 GND (power) "Ground.", 3 VIN (power) "Input Voltage.", 4 VOUT (power) "Output Voltage Sense and the Output of the Synchronous Rectifier. Connect the output filter capacitor from VOUT to GND, close to the IC. A minimum value of 10uF ceramic is recommended. Use 22uF for reduced output ripple.", 5 GND (power) "Ground.", 6 SW "Switch Pin. Connect an inductor from this pin to VIN. An internal antiringing resistor is connected across SW and VIN after the inductor current has dropped to zero to minimize EMI."

## LTC3525ESC6-3.3#TR
designator U?
400 mA Micropower Synchronous Step-Up DC/DC Converter with Output Disconnect, 6-pin SOT23 (SC6-6), -40 to 85 degC, Tape and Reel; Manufacturer: Linear Technology; PartNumber: LTC3525ESC6-3.3#TR; Number of Outputs: 1; PackageReference: SC6-6; PackageDescription: 6-Pin Plastic SC70, Body 2 x 1.25 mm, Pitch 0.65 mm; RoHS: FALSE; Code_JEDEC: MO-203
footprint LT-SC6-6-SC70_N (SOT23, 6-Leads, Body 2.2x1.35mm, Pitch 0.65mm, IPC Medium Density)
footprint LT-SC6-6-SC70_L (SOT23, 6-Leads, Body 2.2x1.35mm, Pitch 0.65mm, IPC High Density)
footprint LT-SC6-6-SC70_M (SOT23, 6-Leads, Body 2.2x1.35mm, Pitch 0.65mm, IPC Low Density)
pins: 1 ~{SHDN} (in) "Logic-Controlled Shutdown Input.", 2 GND (power) "Ground.", 3 VIN (power) "Input Voltage.", 4 VOUT (power) "Output Voltage Sense and the Output of the Synchronous Rectifier. Connect the output filter capacitor from VOUT to GND, close to the IC. A minimum value of 10uF ceramic is recommended. Use 22uF for reduced output ripple.", 5 GND (power) "Ground.", 6 SW "Switch Pin. Connect an inductor from this pin to VIN. An internal antiringing resistor is connected across SW and VIN after the inductor current has dropped to zero to minimize EMI."

## LTC3525ESC6-3.3#TRM
designator U?
400 mA Micropower Synchronous Step-Up DC/DC Converter with Output Disconnect, 6-pin SOT23 (SC6-6), -40 to 85 degC, Mini Tape and Reel; Manufacturer: Linear Technology; PartNumber: LTC3525ESC6-3.3#TRM; Number of Outputs: 1; PackageReference: SC6-6; PackageDescription: 6-Pin Plastic SC70, Body 2 x 1.25 mm, Pitch 0.65 mm; RoHS: FALSE; Code_JEDEC: MO-203
footprint LT-SC6-6-SC70_N (SOT23, 6-Leads, Body 2.2x1.35mm, Pitch 0.65mm, IPC Medium Density)
footprint LT-SC6-6-SC70_L (SOT23, 6-Leads, Body 2.2x1.35mm, Pitch 0.65mm, IPC High Density)
footprint LT-SC6-6-SC70_M (SOT23, 6-Leads, Body 2.2x1.35mm, Pitch 0.65mm, IPC Low Density)
pins: 1 ~{SHDN} (in) "Logic-Controlled Shutdown Input.", 2 GND (power) "Ground.", 3 VIN (power) "Input Voltage.", 4 VOUT (power) "Output Voltage Sense and the Output of the Synchronous Rectifier. Connect the output filter capacitor from VOUT to GND, close to the IC. A minimum value of 10uF ceramic is recommended. Use 22uF for reduced output ripple.", 5 GND (power) "Ground.", 6 SW "Switch Pin. Connect an inductor from this pin to VIN. An internal antiringing resistor is connected across SW and VIN after the inductor current has dropped to zero to minimize EMI."

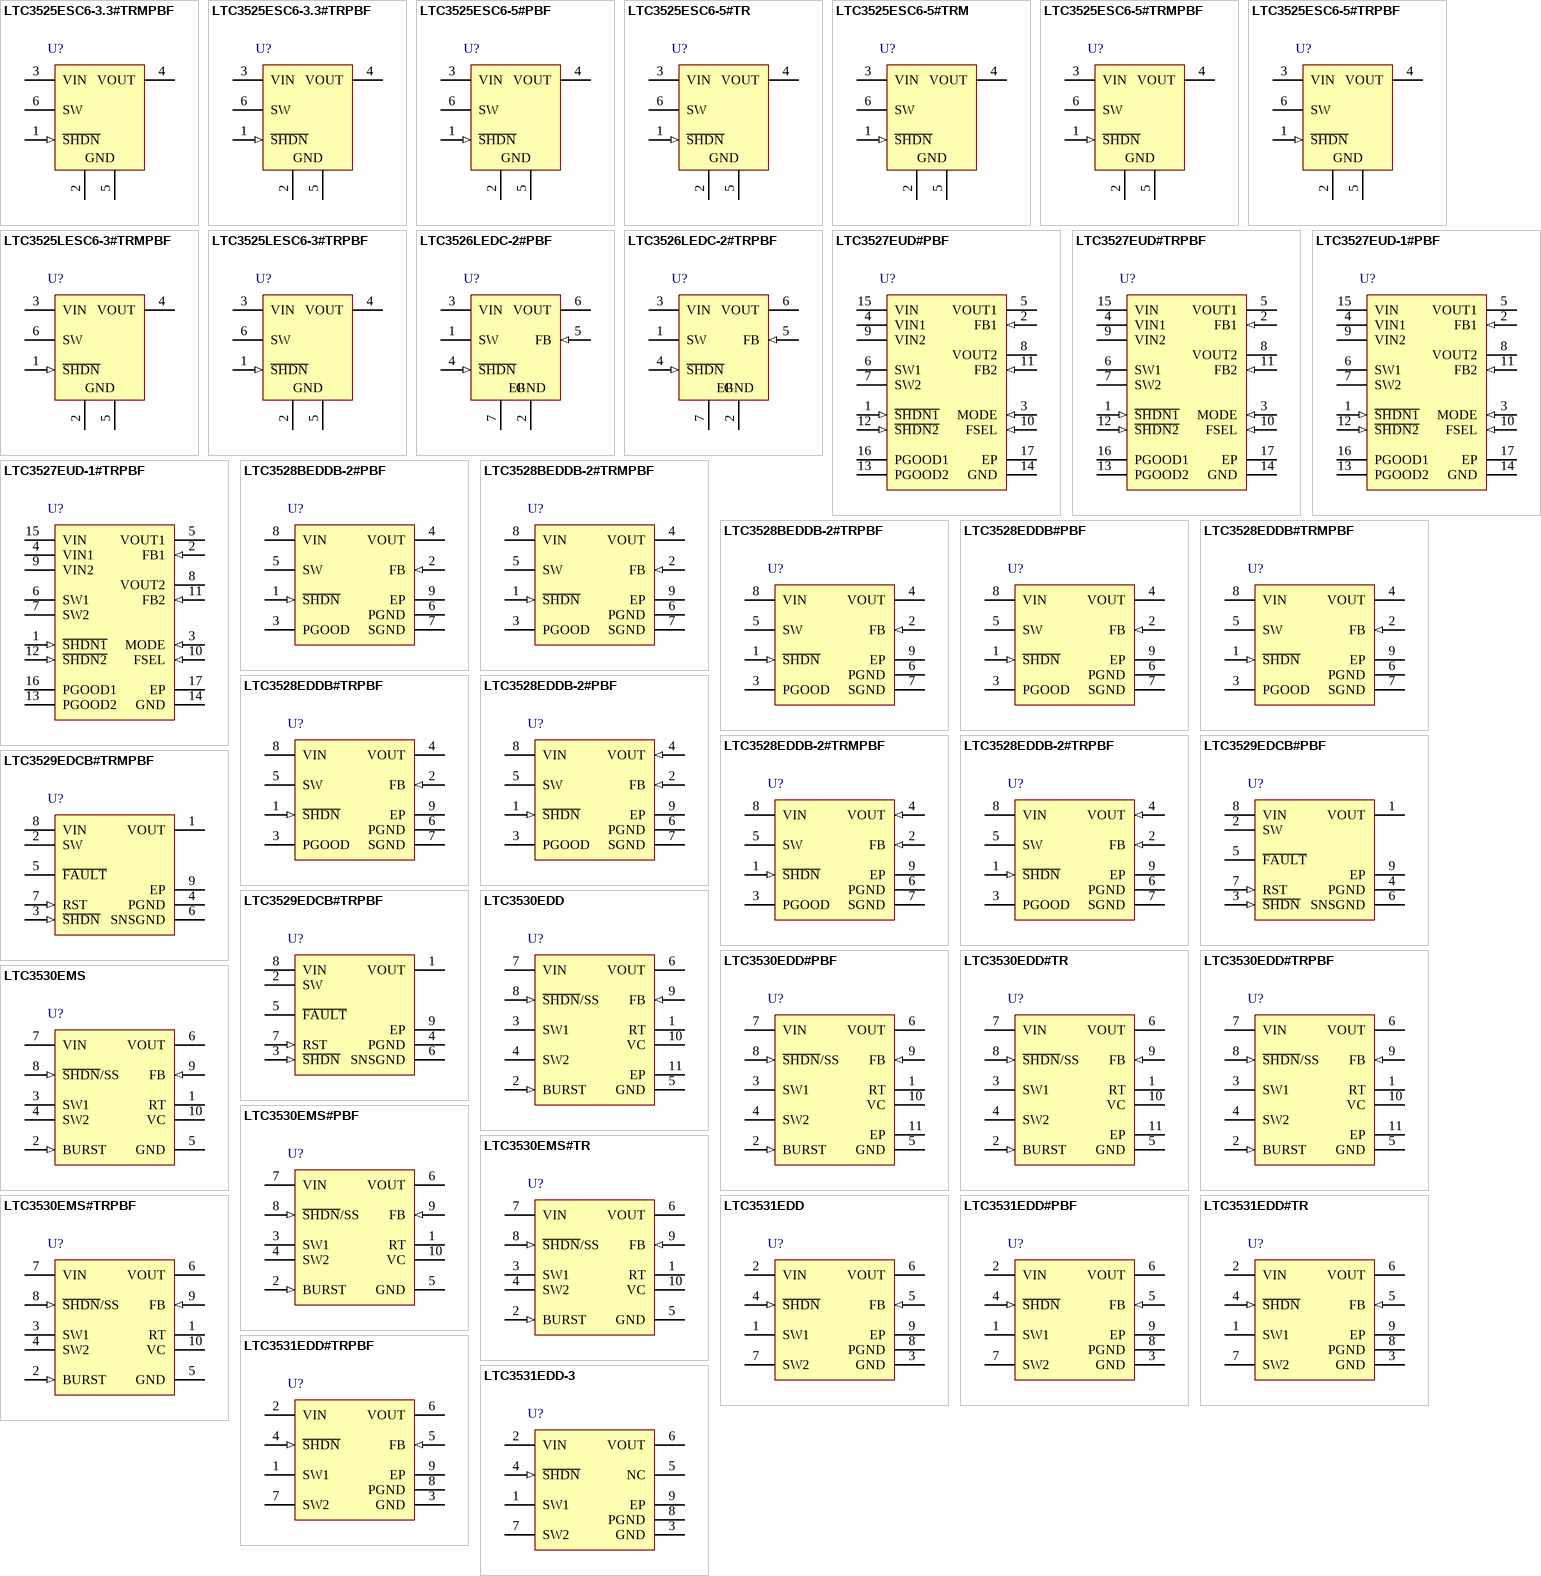
[diagram p29: symbols LTC3525ESC6-3.3#TRMPBF to LTC3531EDD-3]

## LTC3525ESC6-3.3#TRMPBF
designator U?
400 mA Micropower Synchronous Step-Up DC/DC Converter with Output Disconnect, 6-pin SOT23 (SC6-6), -40 to 85 degC, Pb-Free, Mini Tape and Reel; Manufacturer: Linear Technology; PartNumber: LTC3525ESC6-3.3#TRMPBF; Number of Outputs: 1; PackageReference: SC6-6; PackageDescription: 6-Pin Plastic SC70, Body 2 x 1.25 mm, Pitch 0.65 mm; Supplier 1: Digi-Key; Supplier Part Number 1: LTC3525ESC6-3.3#TRMPBFTR-ND; RoHS: TRUE; Code_JEDEC: MO-203
footprint LT-SC6-6-SC70_N (SOT23, 6-Leads, Body 2.2x1.35mm, Pitch 0.65mm, IPC Medium Density)
footprint LT-SC6-6-SC70_L (SOT23, 6-Leads, Body 2.2x1.35mm, Pitch 0.65mm, IPC High Density)
footprint LT-SC6-6-SC70_M (SOT23, 6-Leads, Body 2.2x1.35mm, Pitch 0.65mm, IPC Low Density)
pins: 1 ~{SHDN} (in) "Logic-Controlled Shutdown Input.", 2 GND (power) "Ground.", 3 VIN (power) "Input Voltage.", 4 VOUT (power) "Output Voltage Sense and the Output of the Synchronous Rectifier. Connect the output filter capacitor from VOUT to GND, close to the IC. A minimum value of 10uF ceramic is recommended. Use 22uF for reduced output ripple.", 5 GND (power) "Ground.", 6 SW "Switch Pin. Connect an inductor from this pin to VIN. An internal antiringing resistor is connected across SW and VIN after the inductor current has dropped to zero to minimize EMI."

## LTC3525ESC6-3.3#TRPBF
designator U?
400 mA Micropower Synchronous Step-Up DC/DC Converter with Output Disconnect, 6-pin SOT23 (SC6-6), -40 to 85 degC, Pb-Free, Tape and Reel; Manufacturer: Linear Technology; PartNumber: LTC3525ESC6-3.3#TRPBF; Number of Outputs: 1; PackageReference: SC6-6; PackageDescription: 6-Pin Plastic SC70, Body 2 x 1.25 mm, Pitch 0.65 mm; Supplier 1: Digi-Key; Supplier Part Number 1: LTC3525ESC6-3.3#TRPBF-ND; RoHS: TRUE; Code_JEDEC: MO-203
footprint LT-SC6-6-SC70_N (SOT23, 6-Leads, Body 2.2x1.35mm, Pitch 0.65mm, IPC Medium Density)
footprint LT-SC6-6-SC70_L (SOT23, 6-Leads, Body 2.2x1.35mm, Pitch 0.65mm, IPC High Density)
footprint LT-SC6-6-SC70_M (SOT23, 6-Leads, Body 2.2x1.35mm, Pitch 0.65mm, IPC Low Density)
pins: 1 ~{SHDN} (in) "Logic-Controlled Shutdown Input.", 2 GND (power) "Ground.", 3 VIN (power) "Input Voltage.", 4 VOUT (power) "Output Voltage Sense and the Output of the Synchronous Rectifier. Connect the output filter capacitor from VOUT to GND, close to the IC. A minimum value of 10uF ceramic is recommended. Use 22uF for reduced output ripple.", 5 GND (power) "Ground.", 6 SW "Switch Pin. Connect an inductor from this pin to VIN. An internal antiringing resistor is connected across SW and VIN after the inductor current has dropped to zero to minimize EMI."

## LTC3525ESC6-5#PBF
designator U?
400 mA Micropower Synchronous Step-Up DC/DC Converter with Output Disconnect, 6-pin SOT23 (SC6-6), -40 to 85 degC; Manufacturer: Linear Technology; PartNumber: LTC3525ESC6-5#PBF; Number of Outputs: 1; PackageReference: SC6-6; PackageDescription: 6-Pin Plastic SC70, Body 2 x 1.25 mm, Pitch 0.65 mm; Supplier 1: Farnell; Supplier Part Number 1: 2308145; RoHS: TRUE; Code_JEDEC: MO-203
footprint LT-SC6-6-SC70_N (SOT23, 6-Leads, Body 2.2x1.35mm, Pitch 0.65mm, IPC Medium Density)
footprint LT-SC6-6-SC70_L (SOT23, 6-Leads, Body 2.2x1.35mm, Pitch 0.65mm, IPC High Density)
footprint LT-SC6-6-SC70_M (SOT23, 6-Leads, Body 2.2x1.35mm, Pitch 0.65mm, IPC Low Density)
pins: 1 ~{SHDN} (in) "Logic-Controlled Shutdown Input.", 2 GND (power) "Ground.", 3 VIN (power) "Input Voltage.", 4 VOUT (power) "Output Voltage Sense and the Output of the Synchronous Rectifier. Connect the output filter capacitor from VOUT to GND, close to the IC. A minimum value of 10uF ceramic is recommended. Use 22uF for reduced output ripple.", 5 GND (power) "Ground.", 6 SW "Switch Pin. Connect an inductor from this pin to VIN. An internal antiringing resistor is connected across SW and VIN after the inductor current has dropped to zero to minimize EMI."

## LTC3525ESC6-5#TR
designator U?
400 mA Micropower Synchronous Step-Up DC/DC Converter with Output Disconnect, 6-pin SOT23 (SC6-6), -40 to 85 degC, Tape and Reel; Manufacturer: Linear Technology; PartNumber: LTC3525ESC6-5#TR; Number of Outputs: 1; PackageReference: SC6-6; PackageDescription: 6-Pin Plastic SC70, Body 2 x 1.25 mm, Pitch 0.65 mm; Supplier 1: Newark; Supplier Part Number 1: 56M7894; RoHS: FALSE; Code_JEDEC: MO-203
footprint LT-SC6-6-SC70_N (SOT23, 6-Leads, Body 2.2x1.35mm, Pitch 0.65mm, IPC Medium Density)
footprint LT-SC6-6-SC70_L (SOT23, 6-Leads, Body 2.2x1.35mm, Pitch 0.65mm, IPC High Density)
footprint LT-SC6-6-SC70_M (SOT23, 6-Leads, Body 2.2x1.35mm, Pitch 0.65mm, IPC Low Density)
pins: 1 ~{SHDN} (in) "Logic-Controlled Shutdown Input.", 2 GND (power) "Ground.", 3 VIN (power) "Input Voltage.", 4 VOUT (power) "Output Voltage Sense and the Output of the Synchronous Rectifier. Connect the output filter capacitor from VOUT to GND, close to the IC. A minimum value of 10uF ceramic is recommended. Use 22uF for reduced output ripple.", 5 GND (power) "Ground.", 6 SW "Switch Pin. Connect an inductor from this pin to VIN. An internal antiringing resistor is connected across SW and VIN after the inductor current has dropped to zero to minimize EMI."

## LTC3525ESC6-5#TRM
designator U?
400 mA Micropower Synchronous Step-Up DC/DC Converter with Output Disconnect, 6-pin SOT23 (SC6-6), -40 to 85 degC, Mini Tape and Reel; Manufacturer: Linear Technology; PartNumber: LTC3525ESC6-5#TRM; Number of Outputs: 1; PackageReference: SC6-6; PackageDescription: 6-Pin Plastic SC70, Body 2 x 1.25 mm, Pitch 0.65 mm; RoHS: FALSE; Code_JEDEC: MO-203
footprint LT-SC6-6-SC70_N (SOT23, 6-Leads, Body 2.2x1.35mm, Pitch 0.65mm, IPC Medium Density)
footprint LT-SC6-6-SC70_L (SOT23, 6-Leads, Body 2.2x1.35mm, Pitch 0.65mm, IPC High Density)
footprint LT-SC6-6-SC70_M (SOT23, 6-Leads, Body 2.2x1.35mm, Pitch 0.65mm, IPC Low Density)
pins: 1 ~{SHDN} (in) "Logic-Controlled Shutdown Input.", 2 GND (power) "Ground.", 3 VIN (power) "Input Voltage.", 4 VOUT (power) "Output Voltage Sense and the Output of the Synchronous Rectifier. Connect the output filter capacitor from VOUT to GND, close to the IC. A minimum value of 10uF ceramic is recommended. Use 22uF for reduced output ripple.", 5 GND (power) "Ground.", 6 SW "Switch Pin. Connect an inductor from this pin to VIN. An internal antiringing resistor is connected across SW and VIN after the inductor current has dropped to zero to minimize EMI."